# Altium schematic symbol library IEEE_PINS.SchLib: 1 symbol
Pins are listed as number, name and electrical type; pins without a type are passive.

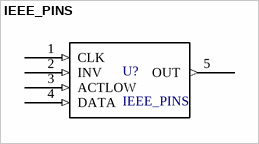
[diagram p0: symbol IEEE_PINS]

## IEEE_PINS
designator U?
IEEE symbol pins test
pins: 1 CLK (in), 2 INV (in), 3 ACTLOW (in), 4 DATA (in), 5 OUT (out)